# Altium schematic symbol library MBRS540.SchLib: 1 symbol
Pins are listed as number, name and electrical type; pins without a type are passive.

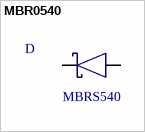
[diagram p0: symbol MBR0540]

## MBR0540
designator D  value MBRS540  (hidden comment: *)
Manufacturer: ON SEMICONDUCTOR; Manufacturer Code: MBRS540T3G; Current: 5A; Voltage: 40V; Farnell Code: 2101838; Unit Price: 0,527 €
footprint SMC
pins: 1, 2 1